# EAGLE library part TPS71750DSET (library TI_TPS)
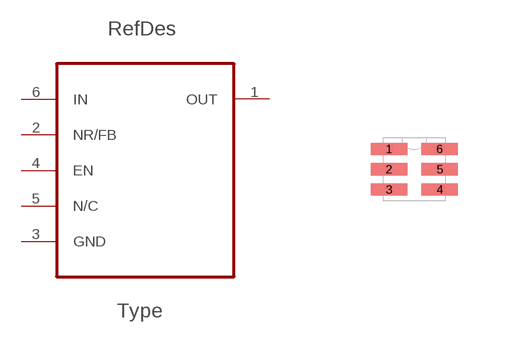
[diagram p2: symbol with the pads of SON5OP150X150X80-6N; footprint SON5OP150X150X80-6N]

Designator prefix U

## TPS71750DSET (DESCRIPTION: Low Noise, High-Bandwidth PSRR Low-Dropout 150mA Linear Regulator; MPN: TPS71750DSET; OC_FARNELL: 1782844; OC_NEWARK: 51R6146; PACKAGE: SON-6; SUPPLIER: Texas Instruments)  [SON5OP150X150X80-6N]
1  OUT  out
2  NR/FB  pas
3  GND  pas
4  EN  in
5  N/C  nc
6  IN  in

## Footprint SON5OP150X150X80-6N (pad centres in mm)
smd 0.914 x 0.305: 1 -0.635,0.508; 2 -0.635,0; 3 -0.635,-0.508; 4 0.635,-0.508; 5 0.635,0; 6 0.635,0.508